# Altium schematic symbol library con-wago.SCHLIB: 193 symbols (part 2 of 2)
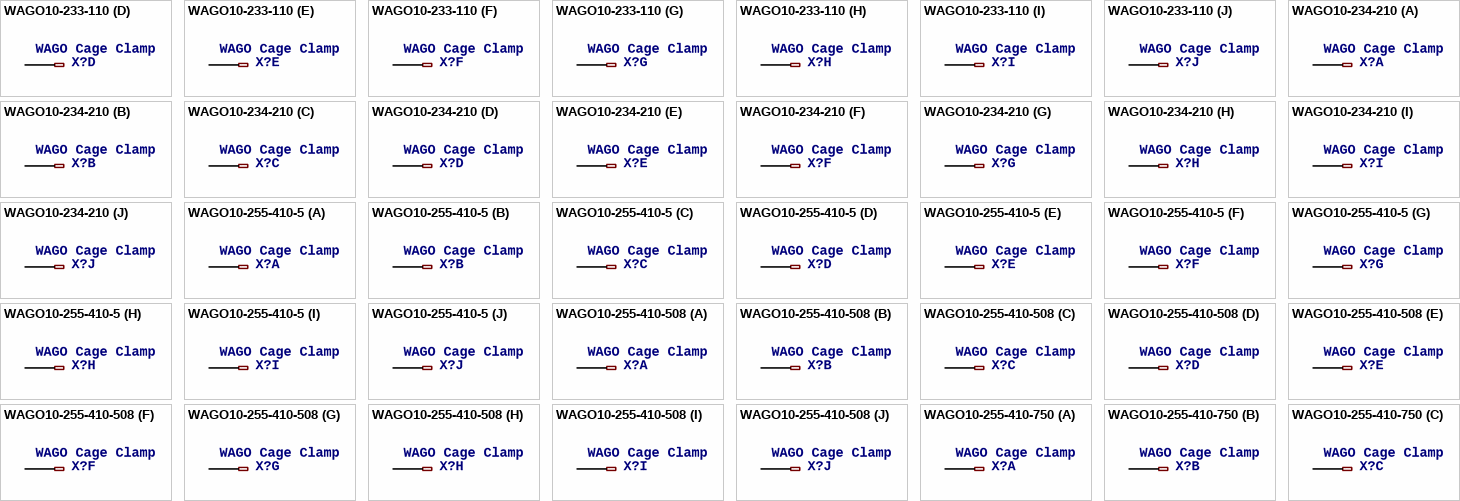
[diagram p32: symbols WAGO10-233-110 to WAGO10-255-410-750]

## WAGO10-255-410-508
designator X?, comment WAGO Cage Clamp
OC_FARNELL: unknown; OC_NEWARK: unknown
footprint 255-410-508
part A pins: A1, B1
part B pins: A2 A1, B2 B1
part C pins: A3 A1, B3 B1
part D pins: A4 A1, B4 B1
part E pins: A5 A1, B5 B1
part F pins: A6 A1, B6 B1
part G pins: A7 A1, B7 B1
part H pins: A8 A1, B8 B1
part I pins: A9 A1, B9 B1
part J pins: A10 A1, B10 B1

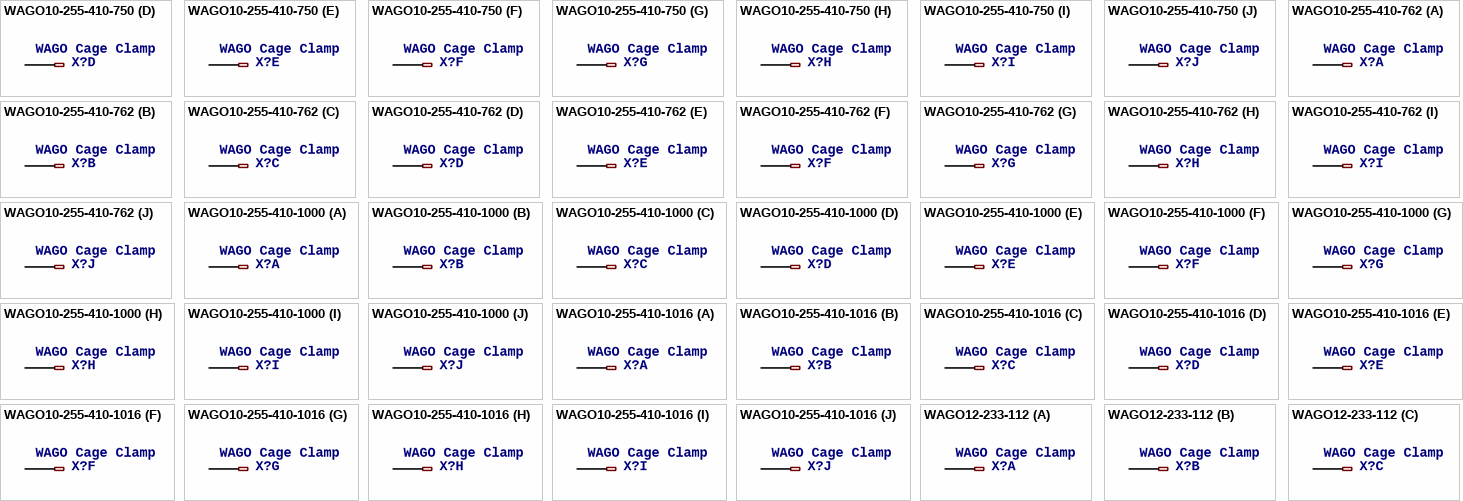
[diagram p13: symbols WAGO10-255-410-750 to WAGO12-233-112]

## WAGO10-255-410-750
designator X?, comment WAGO Cage Clamp
OC_FARNELL: unknown; OC_NEWARK: unknown
footprint 255-410-750
part A pins: A1, B1
part B pins: A2 A1, B2 B1
part C pins: A3 A1, B3 B1
part D pins: A4 A1, B4 B1
part E pins: A5 A1, B5 B1
part F pins: A6 A1, B6 B1
part G pins: A7 A1, B7 B1
part H pins: A8 A1, B8 B1
part I pins: A9 A1, B9 B1
part J pins: A10 A1, B10 B1

## WAGO10-255-410-762
designator X?, comment WAGO Cage Clamp
OC_FARNELL: unknown; OC_NEWARK: unknown
footprint 255-410-762
part A pins: A1, B1
part B pins: A2 A1, B2 B1
part C pins: A3 A1, B3 B1
part D pins: A4 A1, B4 B1
part E pins: A5 A1, B5 B1
part F pins: A6 A1, B6 B1
part G pins: A7 A1, B7 B1
part H pins: A8 A1, B8 B1
part I pins: A9 A1, B9 B1
part J pins: A10 A1, B10 B1

## WAGO10-255-410-1000
designator X?, comment WAGO Cage Clamp
OC_FARNELL: unknown; OC_NEWARK: unknown
footprint 255-410-1000
part A pins: A1, B1
part B pins: A2 A1, B2 B1
part C pins: A3 A1, B3 B1
part D pins: A4 A1, B4 B1
part E pins: A5 A1, B5 B1
part F pins: A6 A1, B6 B1
part G pins: A7 A1, B7 B1
part H pins: A8 A1, B8 B1
part I pins: A9 A1, B9 B1
part J pins: A10 A1, B10 B1

## WAGO10-255-410-1016
designator X?, comment WAGO Cage Clamp
OC_FARNELL: unknown; OC_NEWARK: unknown
footprint 255-410-1016
part A pins: A1, B1
part B pins: A2 A1, B2 B1
part C pins: A3 A1, B3 B1
part D pins: A4 A1, B4 B1
part E pins: A5 A1, B5 B1
part F pins: A6 A1, B6 B1
part G pins: A7 A1, B7 B1
part H pins: A8 A1, B8 B1
part I pins: A9 A1, B9 B1
part J pins: A10 A1, B10 B1

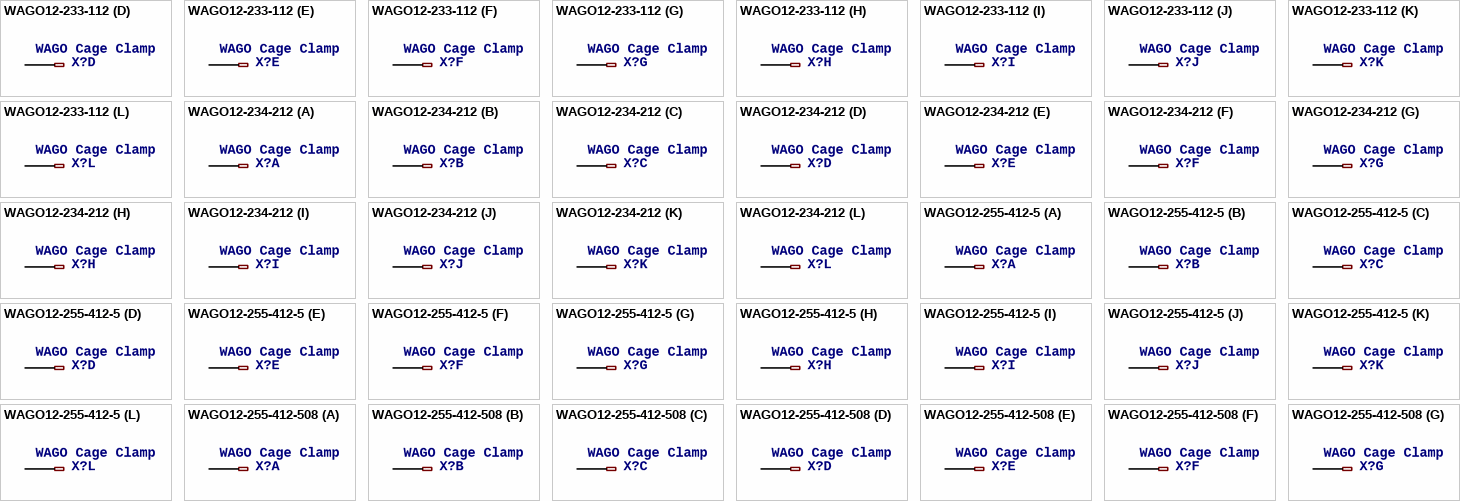
[diagram p14: symbols WAGO12-233-112 to WAGO12-255-412-508]

## WAGO12-233-112
designator X?, comment WAGO Cage Clamp
MPN: 233-112; OC_FARNELL: unknown; OC_NEWARK: 28K9053
footprint 233-112
part A pins: A1, B1
part B pins: A2 A1, B2 B1
part C pins: A3 A1, B3 B1
part D pins: A4 A1, B4 B1
part E pins: A5 A1, B5 B1
part F pins: A6 A1, B6 B1
part G pins: A7 A1, B7 B1
part H pins: A8 A1, B8 B1
part I pins: A9 A1, B9 B1
part J pins: A10 A1, B10 B1
part K pins: A11 A1, B11 B1
part L pins: A12 A1, B12 B1

## WAGO12-234-212
designator X?, comment WAGO Cage Clamp
MPN: 234-212; OC_FARNELL: unknown; OC_NEWARK: 28K9100
footprint 234-212
part A pins: A1, B1
part B pins: A2 A1, B2 B1
part C pins: A3 A1, B3 B1
part D pins: A4 A1, B4 B1
part E pins: A5 A1, B5 B1
part F pins: A6 A1, B6 B1
part G pins: A7 A1, B7 B1
part H pins: A8 A1, B8 B1
part I pins: A9 A1, B9 B1
part J pins: A10 A1, B10 B1
part K pins: A11 A1, B11 B1
part L pins: A12 A1, B12 B1

## WAGO12-255-412-5
designator X?, comment WAGO Cage Clamp
MPN: 255-412; OC_FARNELL: unknown; OC_NEWARK: 28K9777
footprint 255-412-5
part A pins: A1, B1
part B pins: A2 A1, B2 B1
part C pins: A3 A1, B3 B1
part D pins: A4 A1, B4 B1
part E pins: A5 A1, B5 B1
part F pins: A6 A1, B6 B1
part G pins: A7 A1, B7 B1
part H pins: A8 A1, B8 B1
part I pins: A9 A1, B9 B1
part J pins: A10 A1, B10 B1
part K pins: A11 A1, B11 B1
part L pins: A12 A1, B12 B1

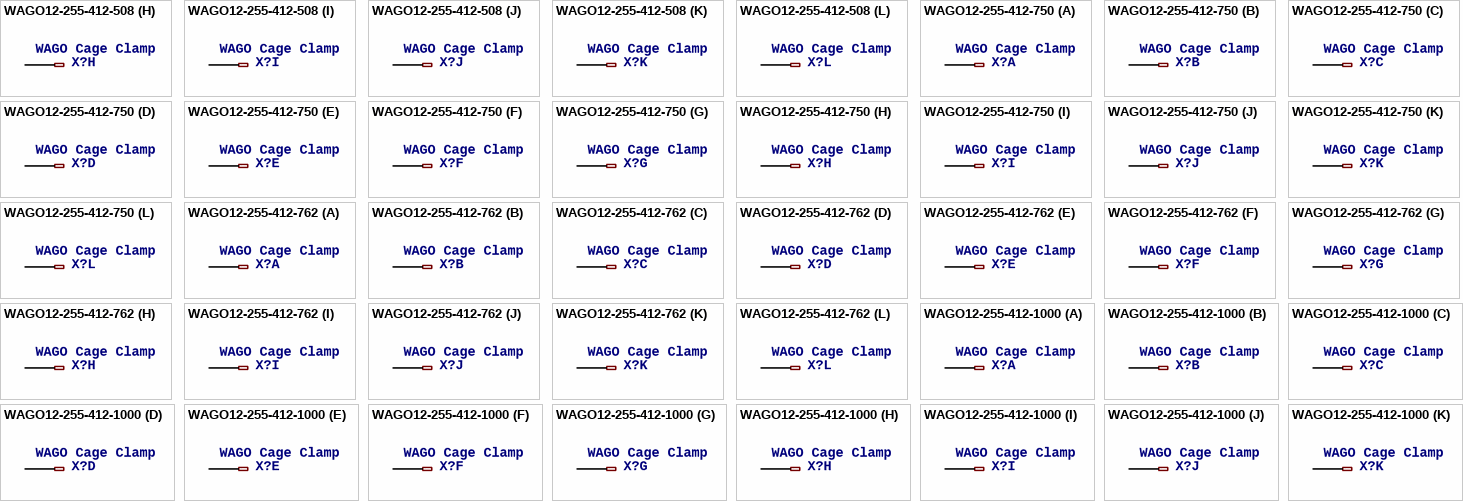
[diagram p15: symbols WAGO12-255-412-508 to WAGO12-255-412-1000]

## WAGO12-255-412-508
designator X?, comment WAGO Cage Clamp
OC_FARNELL: unknown; OC_NEWARK: unknown
footprint 255-412-508
part A pins: A1, B1
part B pins: A2 A1, B2 B1
part C pins: A3 A1, B3 B1
part D pins: A4 A1, B4 B1
part E pins: A5 A1, B5 B1
part F pins: A6 A1, B6 B1
part G pins: A7 A1, B7 B1
part H pins: A8 A1, B8 B1
part I pins: A9 A1, B9 B1
part J pins: A10 A1, B10 B1
part K pins: A11 A1, B11 B1
part L pins: A12 A1, B12 B1

## WAGO12-255-412-750
designator X?, comment WAGO Cage Clamp
OC_FARNELL: unknown; OC_NEWARK: unknown
footprint 255-412-750
part A pins: A1, B1
part B pins: A2 A1, B2 B1
part C pins: A3 A1, B3 B1
part D pins: A4 A1, B4 B1
part E pins: A5 A1, B5 B1
part F pins: A6 A1, B6 B1
part G pins: A7 A1, B7 B1
part H pins: A8 A1, B8 B1
part I pins: A9 A1, B9 B1
part J pins: A10 A1, B10 B1
part K pins: A11 A1, B11 B1
part L pins: A12 A1, B12 B1

## WAGO12-255-412-762
designator X?, comment WAGO Cage Clamp
OC_FARNELL: unknown; OC_NEWARK: unknown
footprint 255-412-762
part A pins: A1, B1
part B pins: A2 A1, B2 B1
part C pins: A3 A1, B3 B1
part D pins: A4 A1, B4 B1
part E pins: A5 A1, B5 B1
part F pins: A6 A1, B6 B1
part G pins: A7 A1, B7 B1
part H pins: A8 A1, B8 B1
part I pins: A9 A1, B9 B1
part J pins: A10 A1, B10 B1
part K pins: A11 A1, B11 B1
part L pins: A12 A1, B12 B1

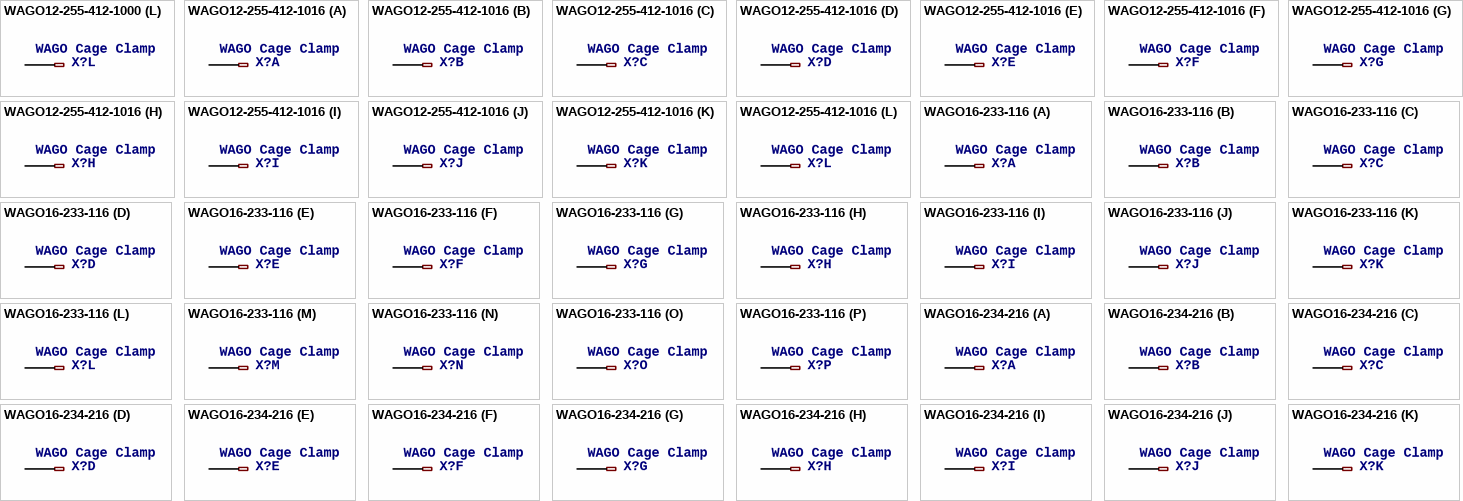
[diagram p16: symbols WAGO12-255-412-1000 to WAGO16-234-216]

## WAGO12-255-412-1000
designator X?, comment WAGO Cage Clamp
OC_FARNELL: unknown; OC_NEWARK: unknown
footprint 255-412-1000
part A pins: A1, B1
part B pins: A2 A1, B2 B1
part C pins: A3 A1, B3 B1
part D pins: A4 A1, B4 B1
part E pins: A5 A1, B5 B1
part F pins: A6 A1, B6 B1
part G pins: A7 A1, B7 B1
part H pins: A8 A1, B8 B1
part I pins: A9 A1, B9 B1
part J pins: A10 A1, B10 B1
part K pins: A11 A1, B11 B1
part L pins: A12 A1, B12 B1

## WAGO12-255-412-1016
designator X?, comment WAGO Cage Clamp
OC_FARNELL: unknown; OC_NEWARK: unknown
footprint 255-412-1016
part A pins: A1, B1
part B pins: A2 A1, B2 B1
part C pins: A3 A1, B3 B1
part D pins: A4 A1, B4 B1
part E pins: A5 A1, B5 B1
part F pins: A6 A1, B6 B1
part G pins: A7 A1, B7 B1
part H pins: A8 A1, B8 B1
part I pins: A9 A1, B9 B1
part J pins: A10 A1, B10 B1
part K pins: A11 A1, B11 B1
part L pins: A12 A1, B12 B1

## WAGO16-233-116
designator X?, comment WAGO Cage Clamp
MPN: 233-116; OC_FARNELL: unknown; OC_NEWARK: 28K9054
footprint 233-116
part A pins: A1, B1
part B pins: A2 A1, B2 B1
part C pins: A3 A1, B3 B1
part D pins: A4 A1, B4 B1
part E pins: A5 A1, B5 B1
part F pins: A6 A1, B6 B1
part G pins: A7 A1, B7 B1
part H pins: A8 A1, B8 B1
part I pins: A9 A1, B9 B1
part J pins: A10 A1, B10 B1
part K pins: A11 A1, B11 B1
part L pins: A12 A1, B12 B1
part M pins: A13 A1, B13 B1
part N pins: A14 A1, B14 B1
part O pins: A15 A1, B15 B1
part P pins: A16 A1, B16 B1

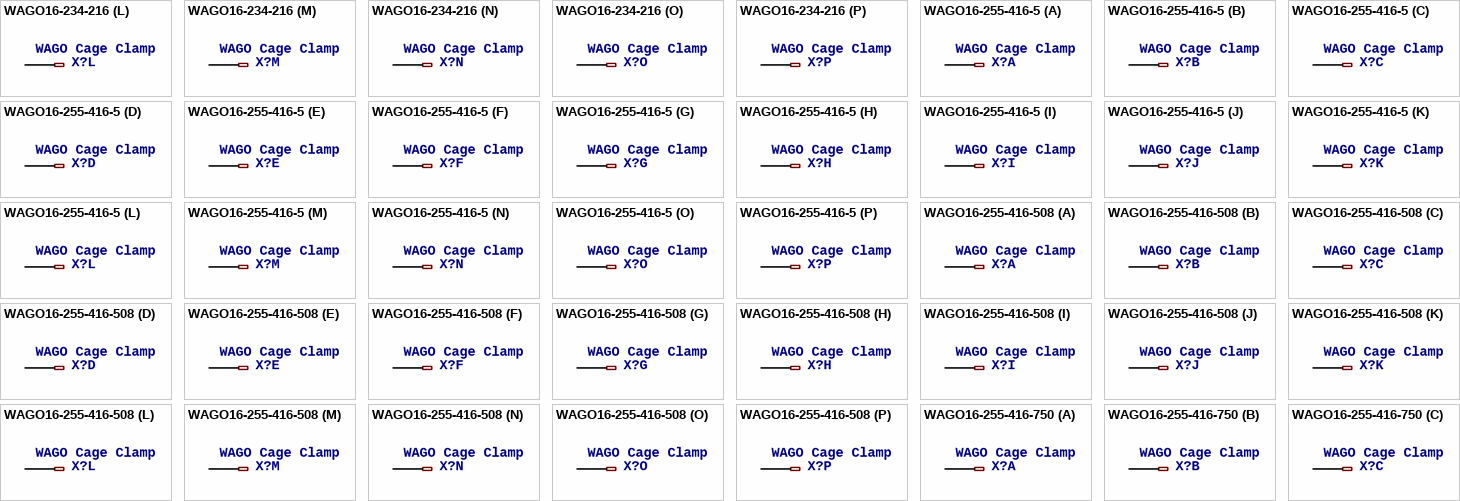
[diagram p17: symbols WAGO16-234-216 to WAGO16-255-416-750]

## WAGO16-234-216
designator X?, comment WAGO Cage Clamp
MPN: 234-216; OC_FARNELL: unknown; OC_NEWARK: 28K9101
footprint 234-216
part A pins: A1, B1
part B pins: A2 A1, B2 B1
part C pins: A3 A1, B3 B1
part D pins: A4 A1, B4 B1
part E pins: A5 A1, B5 B1
part F pins: A6 A1, B6 B1
part G pins: A7 A1, B7 B1
part H pins: A8 A1, B8 B1
part I pins: A9 A1, B9 B1
part J pins: A10 A1, B10 B1
part K pins: A11 A1, B11 B1
part L pins: A12 A1, B12 B1
part M pins: A13 A1, B13 B1
part N pins: A14 A1, B14 B1
part O pins: A15 A1, B15 B1
part P pins: A16 A1, B16 B1

## WAGO16-255-416-5
designator X?, comment WAGO Cage Clamp
MPN: 255-416; OC_FARNELL: unknown; OC_NEWARK: 28K9779
footprint 255-416-5
part A pins: A1, B1
part B pins: A2 A1, B2 B1
part C pins: A3 A1, B3 B1
part D pins: A4 A1, B4 B1
part E pins: A5 A1, B5 B1
part F pins: A6 A1, B6 B1
part G pins: A7 A1, B7 B1
part H pins: A8 A1, B8 B1
part I pins: A9 A1, B9 B1
part J pins: A10 A1, B10 B1
part K pins: A11 A1, B11 B1
part L pins: A12 A1, B12 B1
part M pins: A13 A1, B13 B1
part N pins: A14 A1, B14 B1
part O pins: A15 A1, B15 B1
part P pins: A16 A1, B16 B1

## WAGO16-255-416-508
designator X?, comment WAGO Cage Clamp
MPN: 255-416; OC_FARNELL: unknown; OC_NEWARK: 28K9779
footprint 255-416-508
part A pins: A1, B1
part B pins: A2 A1, B2 B1
part C pins: A3 A1, B3 B1
part D pins: A4 A1, B4 B1
part E pins: A5 A1, B5 B1
part F pins: A6 A1, B6 B1
part G pins: A7 A1, B7 B1
part H pins: A8 A1, B8 B1
part I pins: A9 A1, B9 B1
part J pins: A10 A1, B10 B1
part K pins: A11 A1, B11 B1
part L pins: A12 A1, B12 B1
part M pins: A13 A1, B13 B1
part N pins: A14 A1, B14 B1
part O pins: A15 A1, B15 B1
part P pins: A16 A1, B16 B1

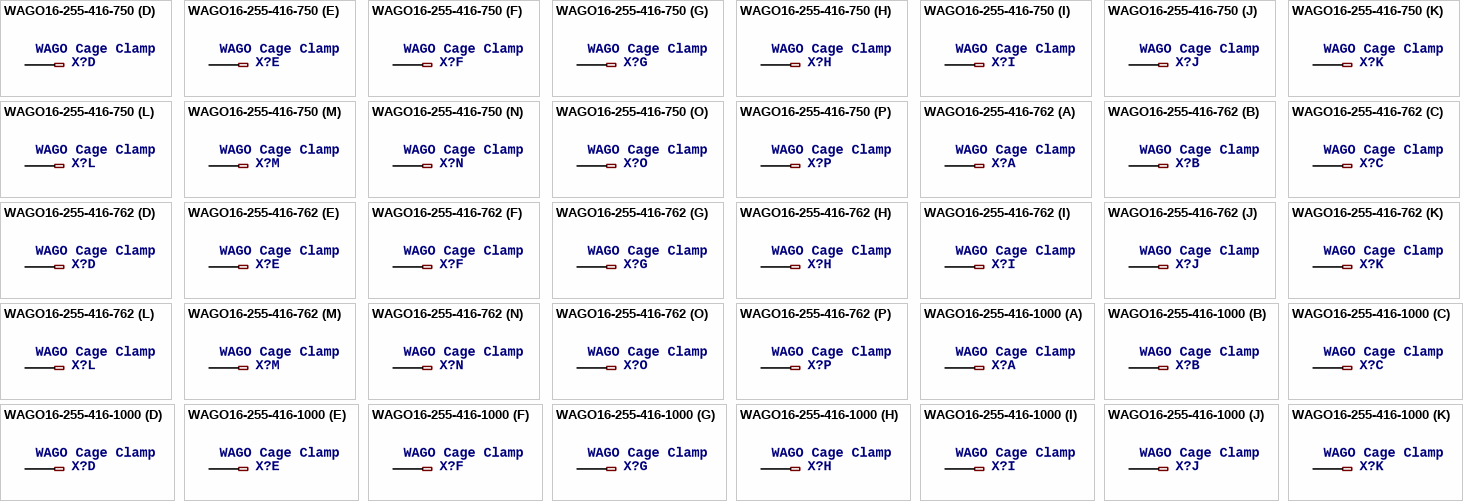
[diagram p18: symbols WAGO16-255-416-750 to WAGO16-255-416-1000]

## WAGO16-255-416-750
designator X?, comment WAGO Cage Clamp
OC_FARNELL: unknown; OC_NEWARK: unknown
footprint 255-416-750
part A pins: A1, B1
part B pins: A2 A1, B2 B1
part C pins: A3 A1, B3 B1
part D pins: A4 A1, B4 B1
part E pins: A5 A1, B5 B1
part F pins: A6 A1, B6 B1
part G pins: A7 A1, B7 B1
part H pins: A8 A1, B8 B1
part I pins: A9 A1, B9 B1
part J pins: A10 A1, B10 B1
part K pins: A11 A1, B11 B1
part L pins: A12 A1, B12 B1
part M pins: A13 A1, B13 B1
part N pins: A14 A1, B14 B1
part O pins: A15 A1, B15 B1
part P pins: A16 A1, B16 B1

## WAGO16-255-416-762
designator X?, comment WAGO Cage Clamp
OC_FARNELL: unknown; OC_NEWARK: unknown
footprint 255-416-762
part A pins: A1, B1
part B pins: A2 A1, B2 B1
part C pins: A3 A1, B3 B1
part D pins: A4 A1, B4 B1
part E pins: A5 A1, B5 B1
part F pins: A6 A1, B6 B1
part G pins: A7 A1, B7 B1
part H pins: A8 A1, B8 B1
part I pins: A9 A1, B9 B1
part J pins: A10 A1, B10 B1
part K pins: A11 A1, B11 B1
part L pins: A12 A1, B12 B1
part M pins: A13 A1, B13 B1
part N pins: A14 A1, B14 B1
part O pins: A15 A1, B15 B1
part P pins: A16 A1, B16 B1

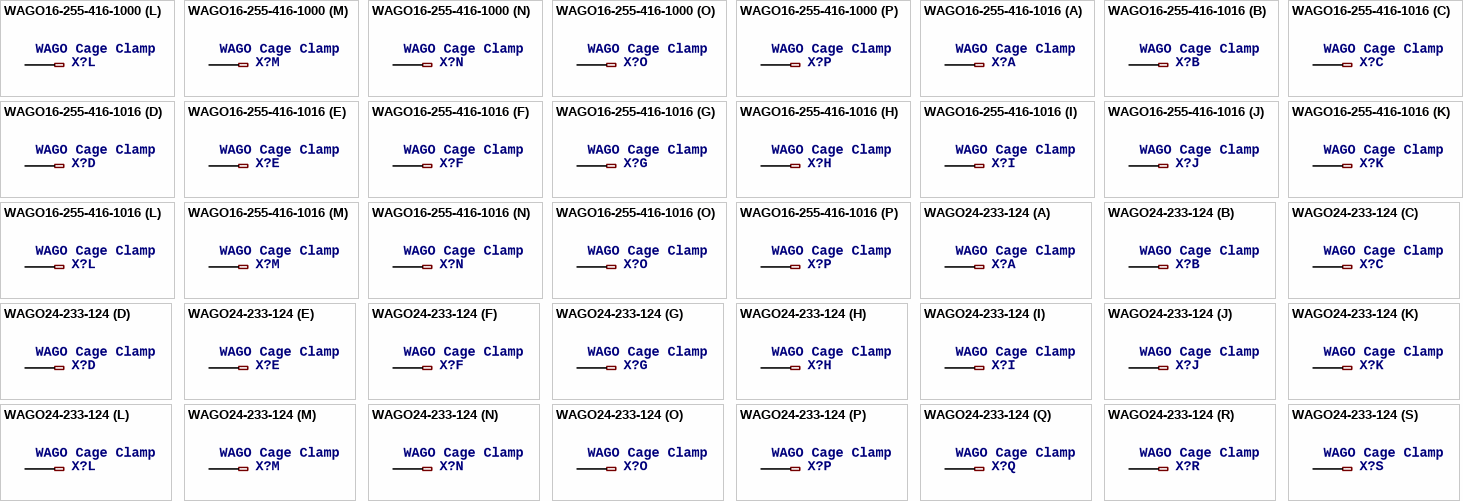
[diagram p19: symbols WAGO16-255-416-1000 to WAGO24-233-124]

## WAGO16-255-416-1000
designator X?, comment WAGO Cage Clamp
OC_FARNELL: unknown; OC_NEWARK: unknown
footprint 255-416-1000
part A pins: A1, B1
part B pins: A2 A1, B2 B1
part C pins: A3 A1, B3 B1
part D pins: A4 A1, B4 B1
part E pins: A5 A1, B5 B1
part F pins: A6 A1, B6 B1
part G pins: A7 A1, B7 B1
part H pins: A8 A1, B8 B1
part I pins: A9 A1, B9 B1
part J pins: A10 A1, B10 B1
part K pins: A11 A1, B11 B1
part L pins: A12 A1, B12 B1
part M pins: A13 A1, B13 B1
part N pins: A14 A1, B14 B1
part O pins: A15 A1, B15 B1
part P pins: A16 A1, B16 B1

## WAGO16-255-416-1016
designator X?, comment WAGO Cage Clamp
OC_FARNELL: unknown; OC_NEWARK: unknown
footprint 255-416-1016
part A pins: A1, B1
part B pins: A2 A1, B2 B1
part C pins: A3 A1, B3 B1
part D pins: A4 A1, B4 B1
part E pins: A5 A1, B5 B1
part F pins: A6 A1, B6 B1
part G pins: A7 A1, B7 B1
part H pins: A8 A1, B8 B1
part I pins: A9 A1, B9 B1
part J pins: A10 A1, B10 B1
part K pins: A11 A1, B11 B1
part L pins: A12 A1, B12 B1
part M pins: A13 A1, B13 B1
part N pins: A14 A1, B14 B1
part O pins: A15 A1, B15 B1
part P pins: A16 A1, B16 B1

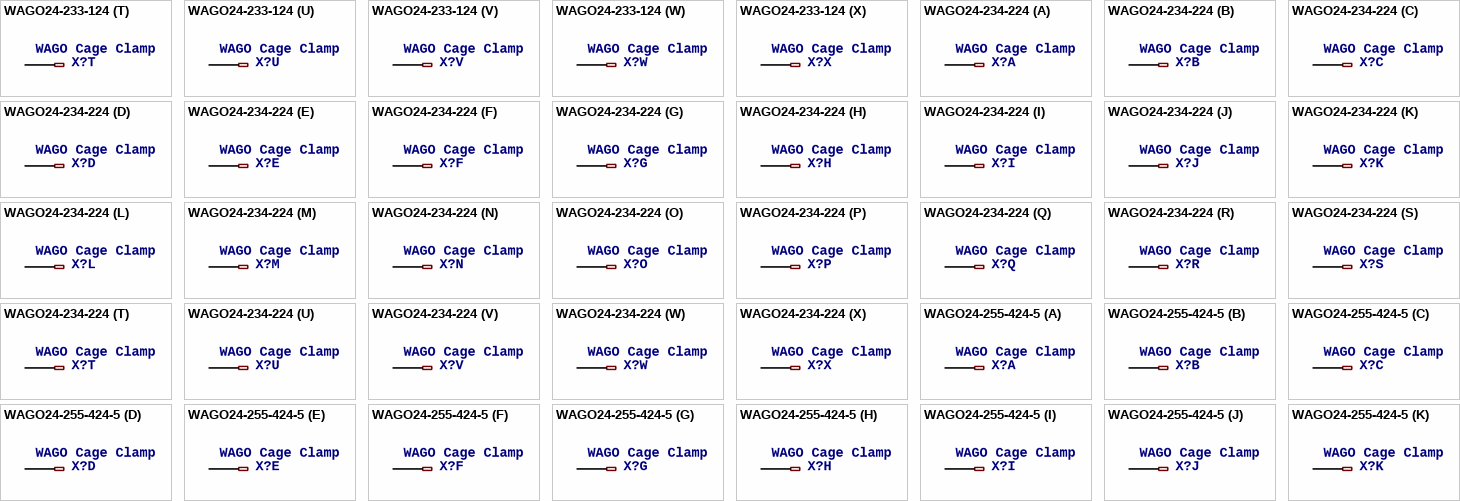
[diagram p20: symbols WAGO24-233-124 to WAGO24-255-424-5]

## WAGO24-233-124
designator X?, comment WAGO Cage Clamp
MPN: 233-124; OC_FARNELL: unknown; OC_NEWARK: 28K9056
footprint 233-124
part A pins: A1, B1
part B pins: A2 A1, B2 B1
part C pins: A3 A1, B3 B1
part D pins: A4 A1, B4 B1
part E pins: A5 A1, B5 B1
part F pins: A6 A1, B6 B1
part G pins: A7 A1, B7 B1
part H pins: A8 A1, B8 B1
part I pins: A9 A1, B9 B1
part J pins: A10 A1, B10 B1
part K pins: A11 A1, B11 B1
part L pins: A12 A1, B12 B1
part M pins: A13 A1, B13 B1
part N pins: A14 A1, B14 B1
part O pins: A15 A1, B15 B1
part P pins: A16 A1, B16 B1
part Q pins: A17 A1, B17 B1
part R pins: A18 A1, B18 B1
part S pins: A19 A1, B19 B1
part T pins: A20 A1, B20 B1
part U pins: A21 A1, B21 B1
part V pins: A22 A1, B22 B1
part W pins: A23 A1, B23 B1
part X pins: A24 A1, B24 B1

## WAGO24-234-224
designator X?, comment WAGO Cage Clamp
MPN: 234-224; OC_FARNELL: unknown; OC_NEWARK: 28K9102
footprint 234-224
part A pins: A1, B1
part B pins: A2 A1, B2 B1
part C pins: A3 A1, B3 B1
part D pins: A4 A1, B4 B1
part E pins: A5 A1, B5 B1
part F pins: A6 A1, B6 B1
part G pins: A7 A1, B7 B1
part H pins: A8 A1, B8 B1
part I pins: A9 A1, B9 B1
part J pins: A10 A1, B10 B1
part K pins: A11 A1, B11 B1
part L pins: A12 A1, B12 B1
part M pins: A13 A1, B13 B1
part N pins: A14 A1, B14 B1
part O pins: A15 A1, B15 B1
part P pins: A16 A1, B16 B1
part Q pins: A17 A1, B17 B1
part R pins: A18 A1, B18 B1
part S pins: A19 A1, B19 B1
part T pins: A20 A1, B20 B1
part U pins: A21 A1, B21 B1
part V pins: A22 A1, B22 B1
part W pins: A23 A1, B23 B1
part X pins: A24 A1, B24 B1

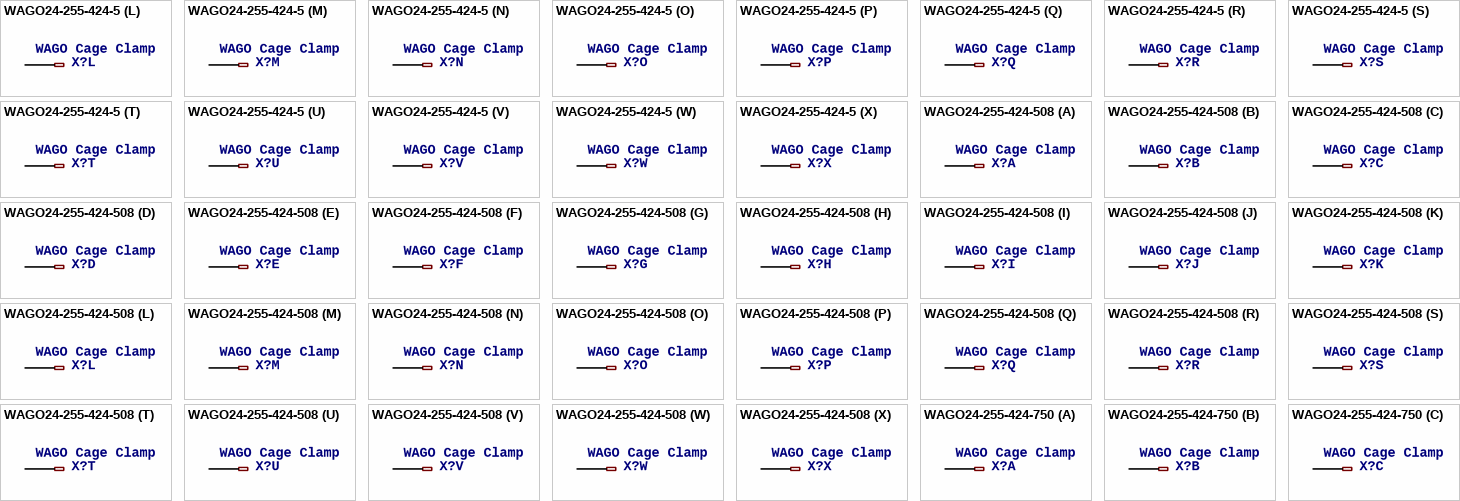
[diagram p21: symbols WAGO24-255-424-5 to WAGO24-255-424-750]

## WAGO24-255-424-5
designator X?, comment WAGO Cage Clamp
MPN: 255-424; OC_FARNELL: unknown; OC_NEWARK: 28K9780
footprint 255-424-5
part A pins: A1, B1
part B pins: A2 A1, B2 B1
part C pins: A3 A1, B3 B1
part D pins: A4 A1, B4 B1
part E pins: A5 A1, B5 B1
part F pins: A6 A1, B6 B1
part G pins: A7 A1, B7 B1
part H pins: A8 A1, B8 B1
part I pins: A9 A1, B9 B1
part J pins: A10 A1, B10 B1
part K pins: A11 A1, B11 B1
part L pins: A12 A1, B12 B1
part M pins: A13 A1, B13 B1
part N pins: A14 A1, B14 B1
part O pins: A15 A1, B15 B1
part P pins: A16 A1, B16 B1
part Q pins: A17 A1, B17 B1
part R pins: A18 A1, B18 B1
part S pins: A19 A1, B19 B1
part T pins: A20 A1, B20 B1
part U pins: A21 A1, B21 B1
part V pins: A22 A1, B22 B1
part W pins: A23 A1, B23 B1
part X pins: A24 A1, B24 B1

## WAGO24-255-424-508
designator X?, comment WAGO Cage Clamp
OC_FARNELL: unknown; OC_NEWARK: unknown
footprint 255-424-508
part A pins: A1, B1
part B pins: A2 A1, B2 B1
part C pins: A3 A1, B3 B1
part D pins: A4 A1, B4 B1
part E pins: A5 A1, B5 B1
part F pins: A6 A1, B6 B1
part G pins: A7 A1, B7 B1
part H pins: A8 A1, B8 B1
part I pins: A9 A1, B9 B1
part J pins: A10 A1, B10 B1
part K pins: A11 A1, B11 B1
part L pins: A12 A1, B12 B1
part M pins: A13 A1, B13 B1
part N pins: A14 A1, B14 B1
part O pins: A15 A1, B15 B1
part P pins: A16 A1, B16 B1
part Q pins: A17 A1, B17 B1
part R pins: A18 A1, B18 B1
part S pins: A19 A1, B19 B1
part T pins: A20 A1, B20 B1
part U pins: A21 A1, B21 B1
part V pins: A22 A1, B22 B1
part W pins: A23 A1, B23 B1
part X pins: A24 A1, B24 B1

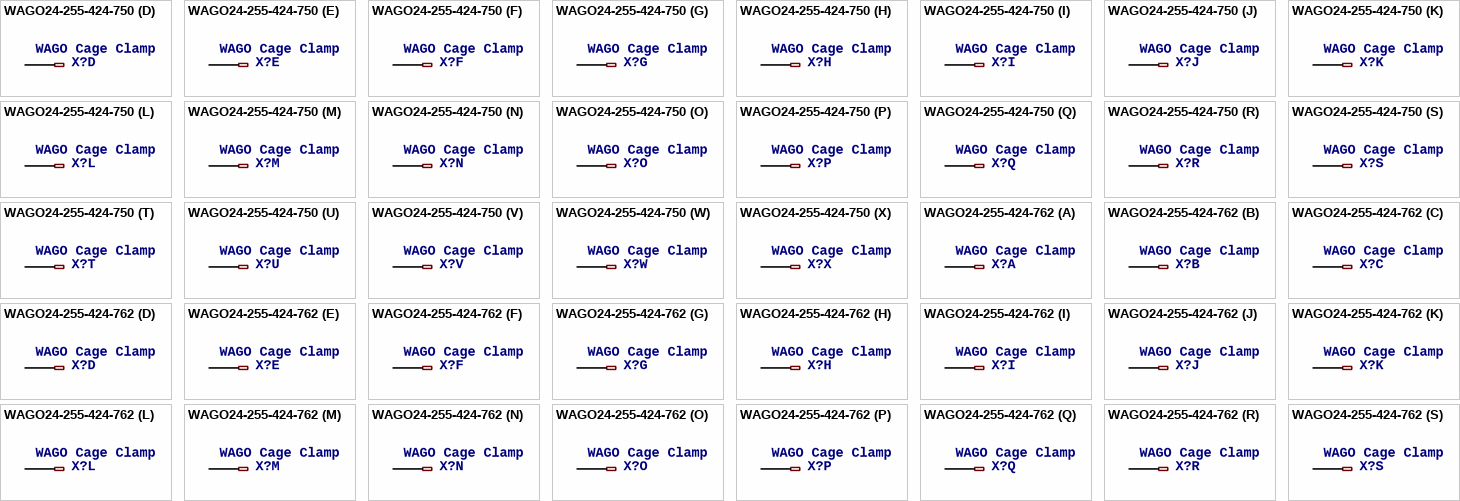
[diagram p22: symbols WAGO24-255-424-750 to WAGO24-255-424-762]

## WAGO24-255-424-750
designator X?, comment WAGO Cage Clamp
OC_FARNELL: unknown; OC_NEWARK: unknown
footprint 255-424-750
part A pins: A1, B1
part B pins: A2 A1, B2 B1
part C pins: A3 A1, B3 B1
part D pins: A4 A1, B4 B1
part E pins: A5 A1, B5 B1
part F pins: A6 A1, B6 B1
part G pins: A7 A1, B7 B1
part H pins: A8 A1, B8 B1
part I pins: A9 A1, B9 B1
part J pins: A10 A1, B10 B1
part K pins: A11 A1, B11 B1
part L pins: A12 A1, B12 B1
part M pins: A13 A1, B13 B1
part N pins: A14 A1, B14 B1
part O pins: A15 A1, B15 B1
part P pins: A16 A1, B16 B1
part Q pins: A17 A1, B17 B1
part R pins: A18 A1, B18 B1
part S pins: A19 A1, B19 B1
part T pins: A20 A1, B20 B1
part U pins: A21 A1, B21 B1
part V pins: A22 A1, B22 B1
part W pins: A23 A1, B23 B1
part X pins: A24 A1, B24 B1

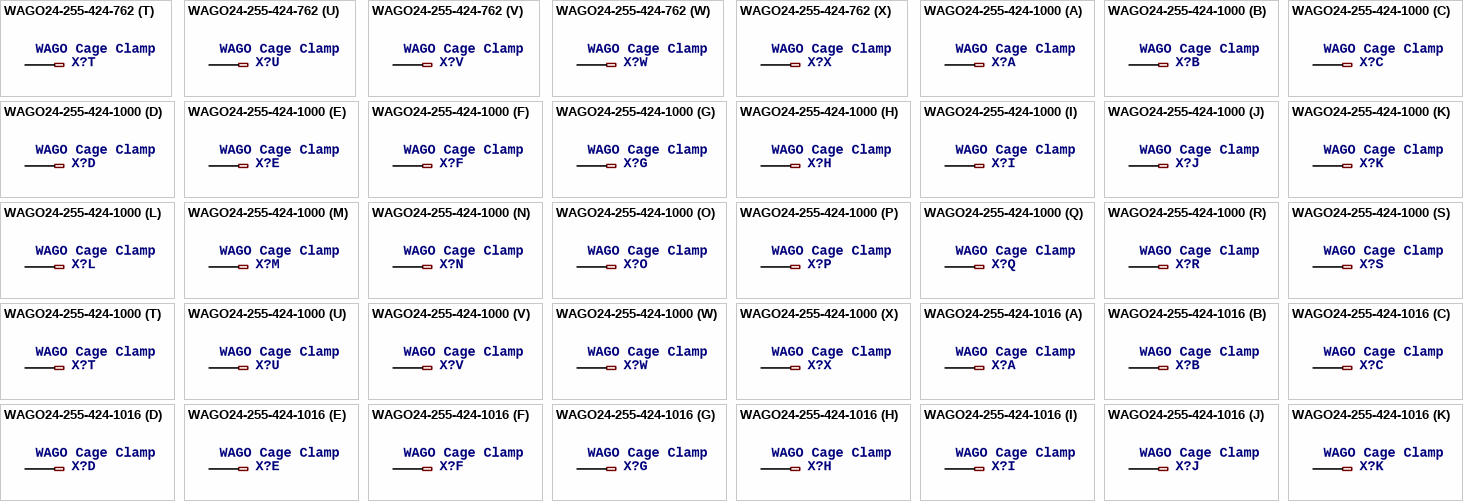
[diagram p23: symbols WAGO24-255-424-762 to WAGO24-255-424-1016]

## WAGO24-255-424-762
designator X?, comment WAGO Cage Clamp
OC_FARNELL: unknown; OC_NEWARK: unknown
footprint 255-424-762
part A pins: A1, B1
part B pins: A2 A1, B2 B1
part C pins: A3 A1, B3 B1
part D pins: A4 A1, B4 B1
part E pins: A5 A1, B5 B1
part F pins: A6 A1, B6 B1
part G pins: A7 A1, B7 B1
part H pins: A8 A1, B8 B1
part I pins: A9 A1, B9 B1
part J pins: A10 A1, B10 B1
part K pins: A11 A1, B11 B1
part L pins: A12 A1, B12 B1
part M pins: A13 A1, B13 B1
part N pins: A14 A1, B14 B1
part O pins: A15 A1, B15 B1
part P pins: A16 A1, B16 B1
part Q pins: A17 A1, B17 B1
part R pins: A18 A1, B18 B1
part S pins: A19 A1, B19 B1
part T pins: A20 A1, B20 B1
part U pins: A21 A1, B21 B1
part V pins: A22 A1, B22 B1
part W pins: A23 A1, B23 B1
part X pins: A24 A1, B24 B1

## WAGO24-255-424-1000
designator X?, comment WAGO Cage Clamp
OC_FARNELL: unknown; OC_NEWARK: unknown
footprint 255-424-1000
part A pins: A1, B1
part B pins: A2 A1, B2 B1
part C pins: A3 A1, B3 B1
part D pins: A4 A1, B4 B1
part E pins: A5 A1, B5 B1
part F pins: A6 A1, B6 B1
part G pins: A7 A1, B7 B1
part H pins: A8 A1, B8 B1
part I pins: A9 A1, B9 B1
part J pins: A10 A1, B10 B1
part K pins: A11 A1, B11 B1
part L pins: A12 A1, B12 B1
part M pins: A13 A1, B13 B1
part N pins: A14 A1, B14 B1
part O pins: A15 A1, B15 B1
part P pins: A16 A1, B16 B1
part Q pins: A17 A1, B17 B1
part R pins: A18 A1, B18 B1
part S pins: A19 A1, B19 B1
part T pins: A20 A1, B20 B1
part U pins: A21 A1, B21 B1
part V pins: A22 A1, B22 B1
part W pins: A23 A1, B23 B1
part X pins: A24 A1, B24 B1

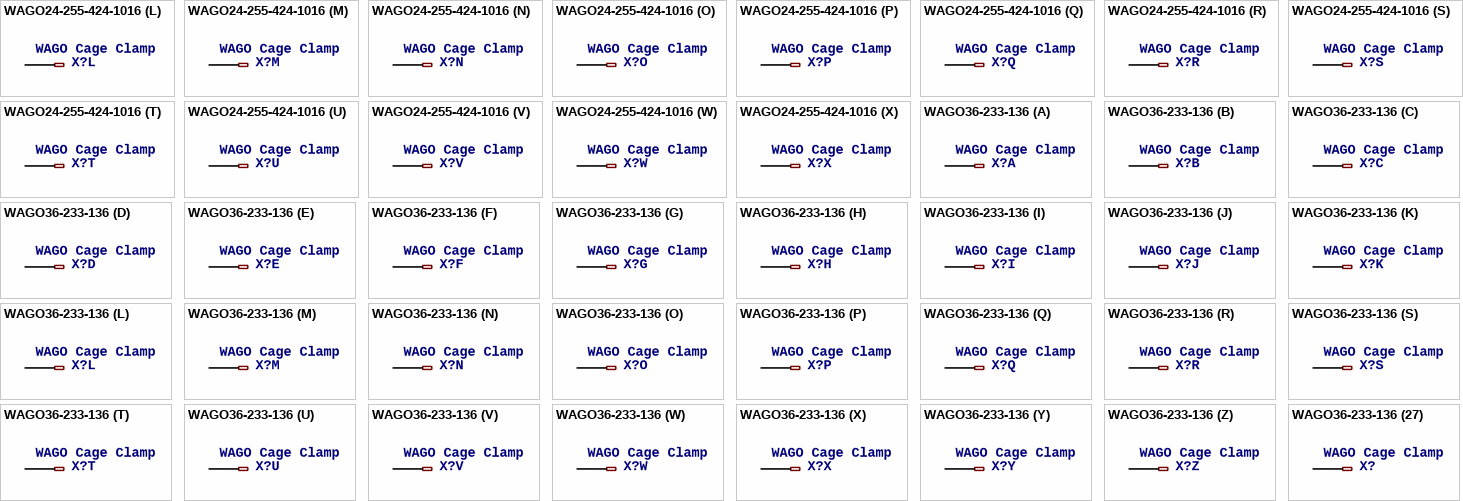
[diagram p24: symbols WAGO24-255-424-1016 to WAGO36-233-136]

## WAGO24-255-424-1016
designator X?, comment WAGO Cage Clamp
OC_FARNELL: unknown; OC_NEWARK: unknown
footprint 255-424-1016
part A pins: A1, B1
part B pins: A2 A1, B2 B1
part C pins: A3 A1, B3 B1
part D pins: A4 A1, B4 B1
part E pins: A5 A1, B5 B1
part F pins: A6 A1, B6 B1
part G pins: A7 A1, B7 B1
part H pins: A8 A1, B8 B1
part I pins: A9 A1, B9 B1
part J pins: A10 A1, B10 B1
part K pins: A11 A1, B11 B1
part L pins: A12 A1, B12 B1
part M pins: A13 A1, B13 B1
part N pins: A14 A1, B14 B1
part O pins: A15 A1, B15 B1
part P pins: A16 A1, B16 B1
part Q pins: A17 A1, B17 B1
part R pins: A18 A1, B18 B1
part S pins: A19 A1, B19 B1
part T pins: A20 A1, B20 B1
part U pins: A21 A1, B21 B1
part V pins: A22 A1, B22 B1
part W pins: A23 A1, B23 B1
part X pins: A24 A1, B24 B1

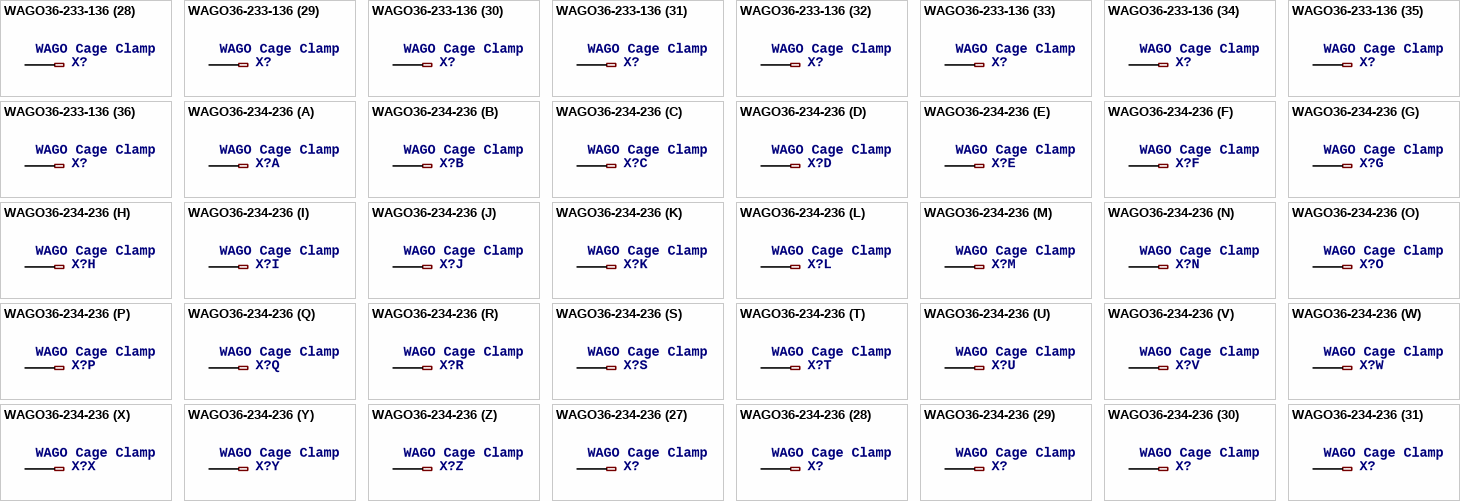
[diagram p25: symbols WAGO36-233-136 to WAGO36-234-236]

## WAGO36-233-136
designator X?, comment WAGO Cage Clamp
MPN: 233-136; OC_FARNELL: unknown; OC_NEWARK: 28K9057
footprint 233-136
part A pins: A1, B1
part B pins: A2 A1, B2 B1
part C pins: A3 A1, B3 B1
part D pins: A4 A1, B4 B1
part E pins: A5 A1, B5 B1
part F pins: A6 A1, B6 B1
part G pins: A7 A1, B7 B1
part H pins: A8 A1, B8 B1
part I pins: A9 A1, B9 B1
part J pins: A10 A1, B10 B1
part K pins: A11 A1, B11 B1
part L pins: A12 A1, B12 B1
part M pins: A13 A1, B13 B1
part N pins: A14 A1, B14 B1
part O pins: A15 A1, B15 B1
part P pins: A16 A1, B16 B1
part Q pins: A17 A1, B17 B1
part R pins: A18 A1, B18 B1
part S pins: A19 A1, B19 B1
part T pins: A20 A1, B20 B1
part U pins: A21 A1, B21 B1
part V pins: A22 A1, B22 B1
part W pins: A23 A1, B23 B1
part X pins: A24 A1, B24 B1
part Y pins: A25 A1, B25 B1
part Z pins: A26 A1, B26 B1
part 27 pins: A27 A1, B27 B1
part 28 pins: A28 A1, B28 B1
part 29 pins: A29 A1, B29 B1
part 30 pins: A30 A1, B30 B1
part 31 pins: A31 A1, B31 B1
part 32 pins: A32 A1, B32 B1
part 33 pins: A33 A1, B33 B1
part 34 pins: A34 A1, B34 B1
part 35 pins: A35 A1, B35 B1
part 36 pins: A36 A1, B36 B1

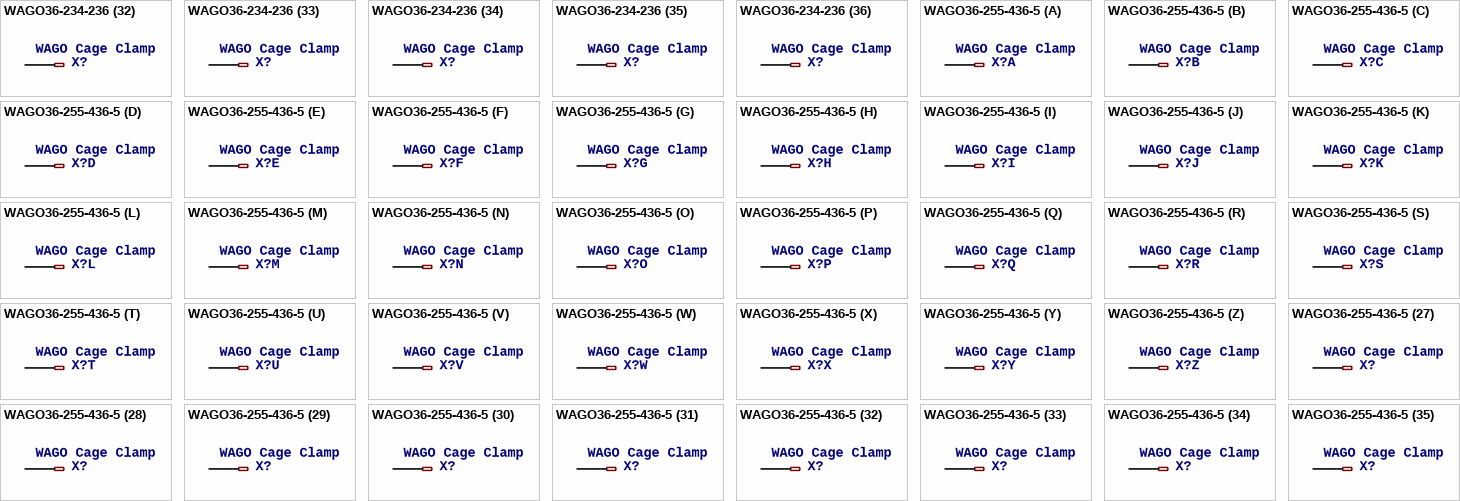
[diagram p26: symbols WAGO36-234-236 to WAGO36-255-436-5]

## WAGO36-234-236
designator X?, comment WAGO Cage Clamp
MPN: 234-236; OC_FARNELL: unknown; OC_NEWARK: 28K9103
footprint 234-236
part A pins: A1, B1
part B pins: A2 A1, B2 B1
part C pins: A3 A1, B3 B1
part D pins: A4 A1, B4 B1
part E pins: A5 A1, B5 B1
part F pins: A6 A1, B6 B1
part G pins: A7 A1, B7 B1
part H pins: A8 A1, B8 B1
part I pins: A9 A1, B9 B1
part J pins: A10 A1, B10 B1
part K pins: A11 A1, B11 B1
part L pins: A12 A1, B12 B1
part M pins: A13 A1, B13 B1
part N pins: A14 A1, B14 B1
part O pins: A15 A1, B15 B1
part P pins: A16 A1, B16 B1
part Q pins: A17 A1, B17 B1
part R pins: A18 A1, B18 B1
part S pins: A19 A1, B19 B1
part T pins: A20 A1, B20 B1
part U pins: A21 A1, B21 B1
part V pins: A22 A1, B22 B1
part W pins: A23 A1, B23 B1
part X pins: A24 A1, B24 B1
part Y pins: A25 A1, B25 B1
part Z pins: A26 A1, B26 B1
part 27 pins: A27 A1, B27 B1
part 28 pins: A28 A1, B28 B1
part 29 pins: A29 A1, B29 B1
part 30 pins: A30 A1, B30 B1
part 31 pins: A31 A1, B31 B1
part 32 pins: A32 A1, B32 B1
part 33 pins: A33 A1, B33 B1
part 34 pins: A34 A1, B34 B1
part 35 pins: A35 A1, B35 B1
part 36 pins: A36 A1, B36 B1

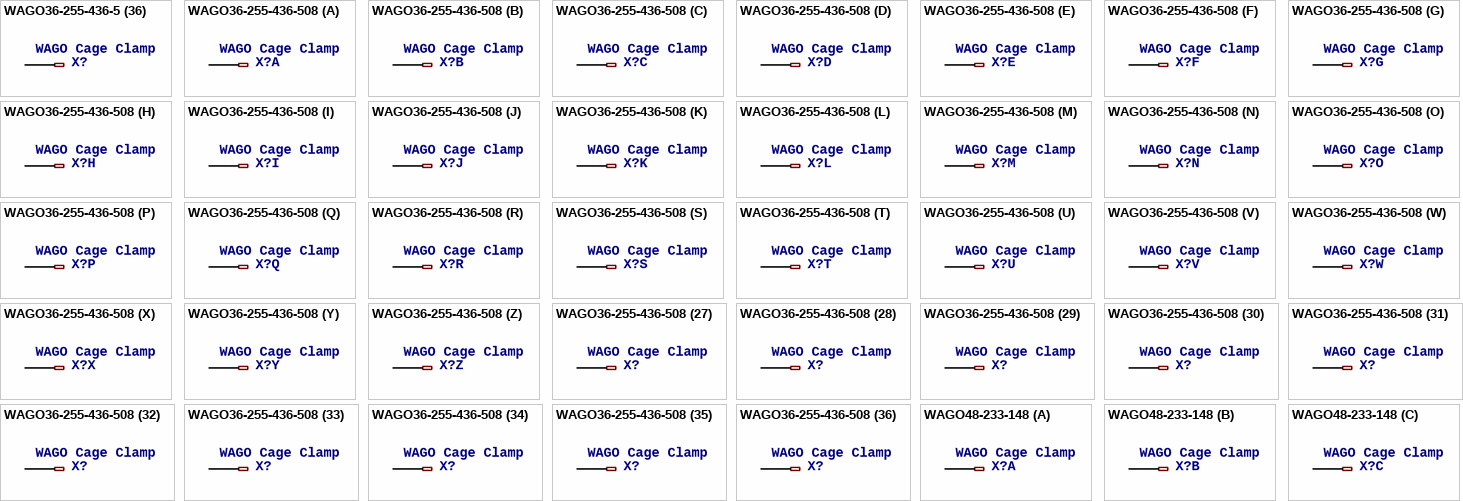
[diagram p27: symbols WAGO36-255-436-5 to WAGO48-233-148]

## WAGO36-255-436-5
designator X?, comment WAGO Cage Clamp
MPN: 255-436; OC_FARNELL: unknown; OC_NEWARK: 28K9781
footprint 255-436-5
part A pins: A1, B1
part B pins: A2 A1, B2 B1
part C pins: A3 A1, B3 B1
part D pins: A4 A1, B4 B1
part E pins: A5 A1, B5 B1
part F pins: A6 A1, B6 B1
part G pins: A7 A1, B7 B1
part H pins: A8 A1, B8 B1
part I pins: A9 A1, B9 B1
part J pins: A10 A1, B10 B1
part K pins: A11 A1, B11 B1
part L pins: A12 A1, B12 B1
part M pins: A13 A1, B13 B1
part N pins: A14 A1, B14 B1
part O pins: A15 A1, B15 B1
part P pins: A16 A1, B16 B1
part Q pins: A17 A1, B17 B1
part R pins: A18 A1, B18 B1
part S pins: A19 A1, B19 B1
part T pins: A20 A1, B20 B1
part U pins: A21 A1, B21 B1
part V pins: A22 A1, B22 B1
part W pins: A23 A1, B23 B1
part X pins: A24 A1, B24 B1
part Y pins: A25 A1, B25 B1
part Z pins: A26 A1, B26 B1
part 27 pins: A27 A1, B27 B1
part 28 pins: A28 A1, B28 B1
part 29 pins: A29 A1, B29 B1
part 30 pins: A30 A1, B30 B1
part 31 pins: A31 A1, B31 B1
part 32 pins: A32 A1, B32 B1
part 33 pins: A33 A1, B33 B1
part 34 pins: A34 A1, B34 B1
part 35 pins: A35 A1, B35 B1
part 36 pins: A36 A1, B36 B1

## WAGO36-255-436-508
designator X?, comment WAGO Cage Clamp
OC_FARNELL: unknown; OC_NEWARK: unknown
footprint 255-436-508
part A pins: A1, B1
part B pins: A2 A1, B2 B1
part C pins: A3 A1, B3 B1
part D pins: A4 A1, B4 B1
part E pins: A5 A1, B5 B1
part F pins: A6 A1, B6 B1
part G pins: A7 A1, B7 B1
part H pins: A8 A1, B8 B1
part I pins: A9 A1, B9 B1
part J pins: A10 A1, B10 B1
part K pins: A11 A1, B11 B1
part L pins: A12 A1, B12 B1
part M pins: A13 A1, B13 B1
part N pins: A14 A1, B14 B1
part O pins: A15 A1, B15 B1
part P pins: A16 A1, B16 B1
part Q pins: A17 A1, B17 B1
part R pins: A18 A1, B18 B1
part S pins: A19 A1, B19 B1
part T pins: A20 A1, B20 B1
part U pins: A21 A1, B21 B1
part V pins: A22 A1, B22 B1
part W pins: A23 A1, B23 B1
part X pins: A24 A1, B24 B1
part Y pins: A25 A1, B25 B1
part Z pins: A26 A1, B26 B1
part 27 pins: A27 A1, B27 B1
part 28 pins: A28 A1, B28 B1
part 29 pins: A29 A1, B29 B1
part 30 pins: A30 A1, B30 B1
part 31 pins: A31 A1, B31 B1
part 32 pins: A32 A1, B32 B1
part 33 pins: A33 A1, B33 B1
part 34 pins: A34 A1, B34 B1
part 35 pins: A35 A1, B35 B1
part 36 pins: A36 A1, B36 B1

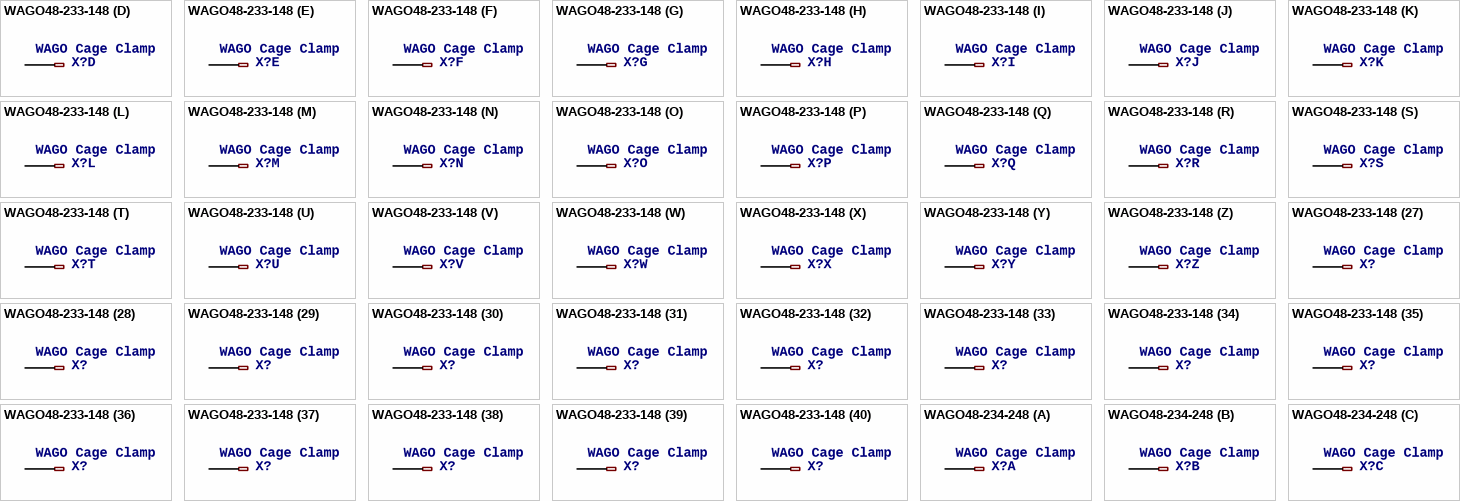
[diagram p28: symbols WAGO48-233-148 to WAGO48-234-248]

## WAGO48-233-148
designator X?, comment WAGO Cage Clamp
MPN: 233-148; OC_FARNELL: unknown; OC_NEWARK: 28K9058
footprint 233-148
part A pins: A1, B1
part B pins: A2 A1, B2 B1
part C pins: A3 A1, B3 B1
part D pins: A4 A1, B4 B1
part E pins: A5 A1, B5 B1
part F pins: A6 A1, B6 B1
part G pins: A7 A1, B7 B1
part H pins: A8 A1, B8 B1
part I pins: A9 A1, B9 B1
part J pins: A10 A1, B10 B1
part K pins: A11 A1, B11 B1
part L pins: A12 A1, B12 B1
part M pins: A13 A1, B13 B1
part N pins: A14 A1, B14 B1
part O pins: A15 A1, B15 B1
part P pins: A16 A1, B16 B1
part Q pins: A17 A1, B17 B1
part R pins: A18 A1, B18 B1
part S pins: A19 A1, B19 B1
part T pins: A20 A1, B20 B1
part U pins: A21 A1, B21 B1
part V pins: A22 A1, B22 B1
part W pins: A23 A1, B23 B1
part X pins: A24 A1, B24 B1
part Y pins: A25 A1, B25 B1
part Z pins: A26 A1, B26 B1
part 27 pins: A27 A1, B27 B1
part 28 pins: A28 A1, B28 B1
part 29 pins: A29 A1, B29 B1
part 30 pins: A30 A1, B30 B1
part 31 pins: A31 A1, B31 B1
part 32 pins: A32 A1, B32 B1
part 33 pins: A33 A1, B33 B1
part 34 pins: A34 A1, B34 B1
part 35 pins: A35 A1, B35 B1
part 36 pins: A36 A1, B36 B1
part 37 pins: A37 A1, B37 B1
part 38 pins: A38 A1, B38 B1
part 39 pins: A39 A1, B39 B1
part 40 pins: A40 A1, B40 B1
part 41 pins: A41 A1, B41 B1
part 42 pins: A42 A1, B42 B1
part 43 pins: A43 A1, B43 B1
part 44 pins: A44 A1, B44 B1
part 45 pins: A45 A1, B45 B1
part 46 pins: A46 A1, B46 B1
part 47 pins: A47 A1, B47 B1
part 48 pins: A48 A1, B48 B1

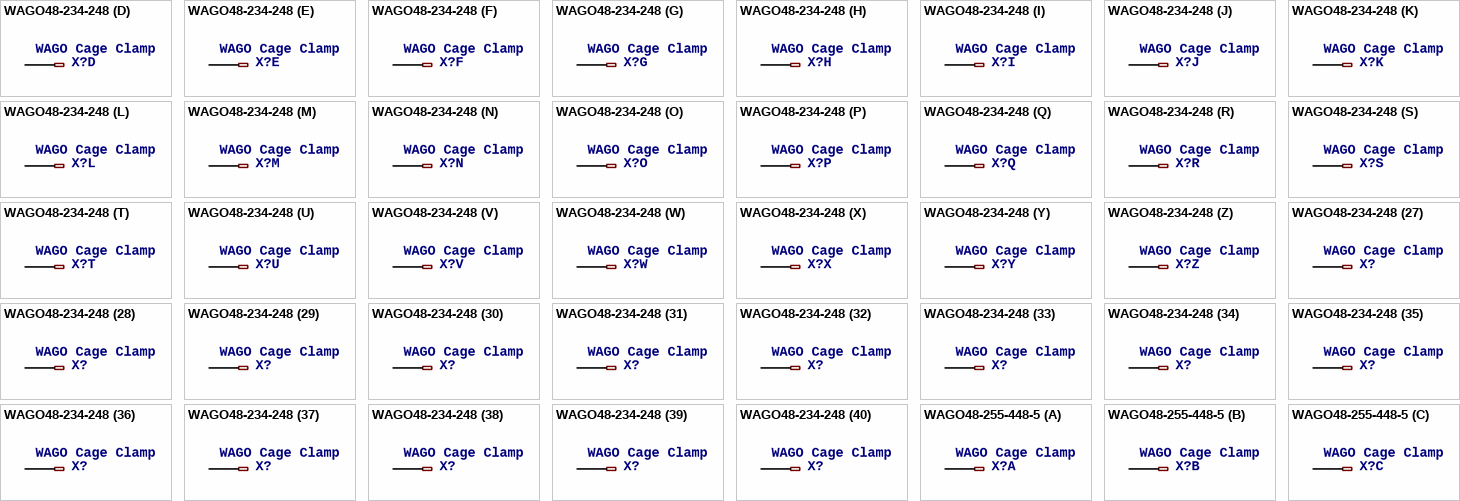
[diagram p29: symbols WAGO48-234-248 to WAGO48-255-448-5]

## WAGO48-234-248
designator X?, comment WAGO Cage Clamp
MPN: 234-248; OC_FARNELL: unknown; OC_NEWARK: 28K9104
footprint 234-248
part A pins: A1, B1
part B pins: A2 A1, B2 B1
part C pins: A3 A1, B3 B1
part D pins: A4 A1, B4 B1
part E pins: A5 A1, B5 B1
part F pins: A6 A1, B6 B1
part G pins: A7 A1, B7 B1
part H pins: A8 A1, B8 B1
part I pins: A9 A1, B9 B1
part J pins: A10 A1, B10 B1
part K pins: A11 A1, B11 B1
part L pins: A12 A1, B12 B1
part M pins: A13 A1, B13 B1
part N pins: A14 A1, B14 B1
part O pins: A15 A1, B15 B1
part P pins: A16 A1, B16 B1
part Q pins: A17 A1, B17 B1
part R pins: A18 A1, B18 B1
part S pins: A19 A1, B19 B1
part T pins: A20 A1, B20 B1
part U pins: A21 A1, B21 B1
part V pins: A22 A1, B22 B1
part W pins: A23 A1, B23 B1
part X pins: A24 A1, B24 B1
part Y pins: A25 A1, B25 B1
part Z pins: A26 A1, B26 B1
part 27 pins: A27 A1, B27 B1
part 28 pins: A28 A1, B28 B1
part 29 pins: A29 A1, B29 B1
part 30 pins: A30 A1, B30 B1
part 31 pins: A31 A1, B31 B1
part 32 pins: A32 A1, B32 B1
part 33 pins: A33 A1, B33 B1
part 34 pins: A34 A1, B34 B1
part 35 pins: A35 A1, B35 B1
part 36 pins: A36 A1, B36 B1
part 37 pins: A37 A1, B37 B1
part 38 pins: A38 A1, B38 B1
part 39 pins: A39 A1, B39 B1
part 40 pins: A40 A1, B40 B1
part 41 pins: A41 A1, B41 B1
part 42 pins: A42 A1, B42 B1
part 43 pins: A43 A1, B43 B1
part 44 pins: A44 A1, B44 B1
part 45 pins: A45 A1, B45 B1
part 46 pins: A46 A1, B46 B1
part 47 pins: A47 A1, B47 B1
part 48 pins: A48 A1, B48 B1

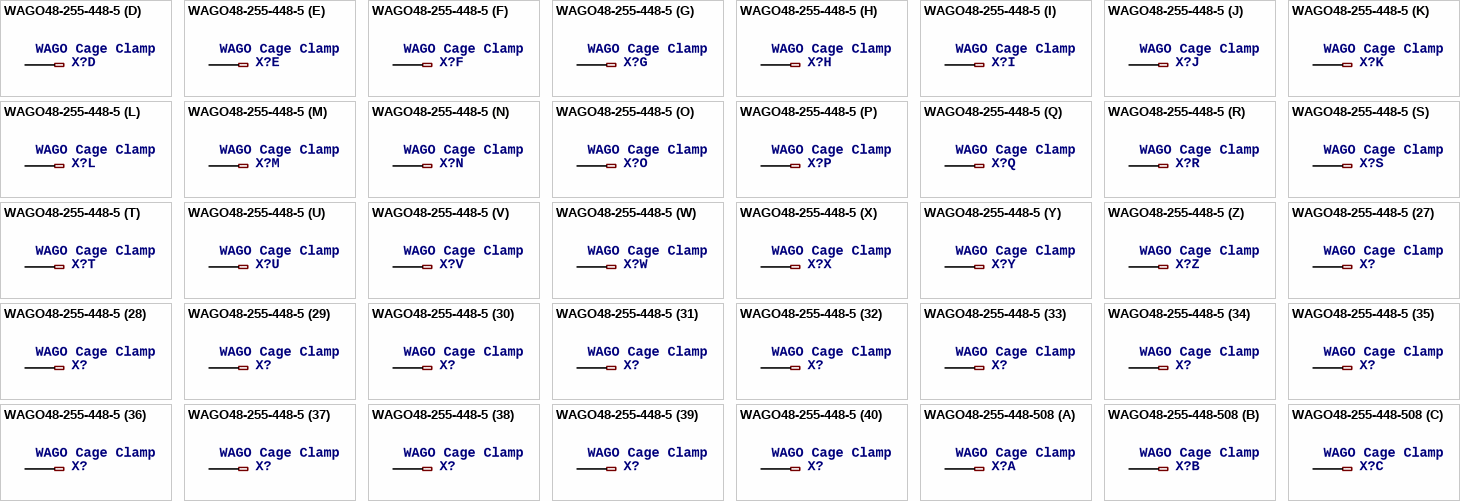
[diagram p30: symbols WAGO48-255-448-5 to WAGO48-255-448-508]

## WAGO48-255-448-5
designator X?, comment WAGO Cage Clamp
MPN: 255-448; OC_FARNELL: unknown; OC_NEWARK: 28K9782
footprint 255-448-5
part A pins: A1, B1
part B pins: A2 A1, B2 B1
part C pins: A3 A1, B3 B1
part D pins: A4 A1, B4 B1
part E pins: A5 A1, B5 B1
part F pins: A6 A1, B6 B1
part G pins: A7 A1, B7 B1
part H pins: A8 A1, B8 B1
part I pins: A9 A1, B9 B1
part J pins: A10 A1, B10 B1
part K pins: A11 A1, B11 B1
part L pins: A12 A1, B12 B1
part M pins: A13 A1, B13 B1
part N pins: A14 A1, B14 B1
part O pins: A15 A1, B15 B1
part P pins: A16 A1, B16 B1
part Q pins: A17 A1, B17 B1
part R pins: A18 A1, B18 B1
part S pins: A19 A1, B19 B1
part T pins: A20 A1, B20 B1
part U pins: A21 A1, B21 B1
part V pins: A22 A1, B22 B1
part W pins: A23 A1, B23 B1
part X pins: A24 A1, B24 B1
part Y pins: A25 A1, B25 B1
part Z pins: A26 A1, B26 B1
part 27 pins: A27 A1, B27 B1
part 28 pins: A28 A1, B28 B1
part 29 pins: A29 A1, B29 B1
part 30 pins: A30 A1, B30 B1
part 31 pins: A31 A1, B31 B1
part 32 pins: A32 A1, B32 B1
part 33 pins: A33 A1, B33 B1
part 34 pins: A34 A1, B34 B1
part 35 pins: A35 A1, B35 B1
part 36 pins: A36 A1, B36 B1
part 37 pins: A37 A1, B37 B1
part 38 pins: A38 A1, B38 B1
part 39 pins: A39 A1, B39 B1
part 40 pins: A40 A1, B40 B1
part 41 pins: A41 A1, B41 B1
part 42 pins: A42 A1, B42 B1
part 43 pins: A43 A1, B43 B1
part 44 pins: A44 A1, B44 B1
part 45 pins: A45 A1, B45 B1
part 46 pins: A46 A1, B46 B1
part 47 pins: A47 A1, B47 B1
part 48 pins: A48 A1, B48 B1

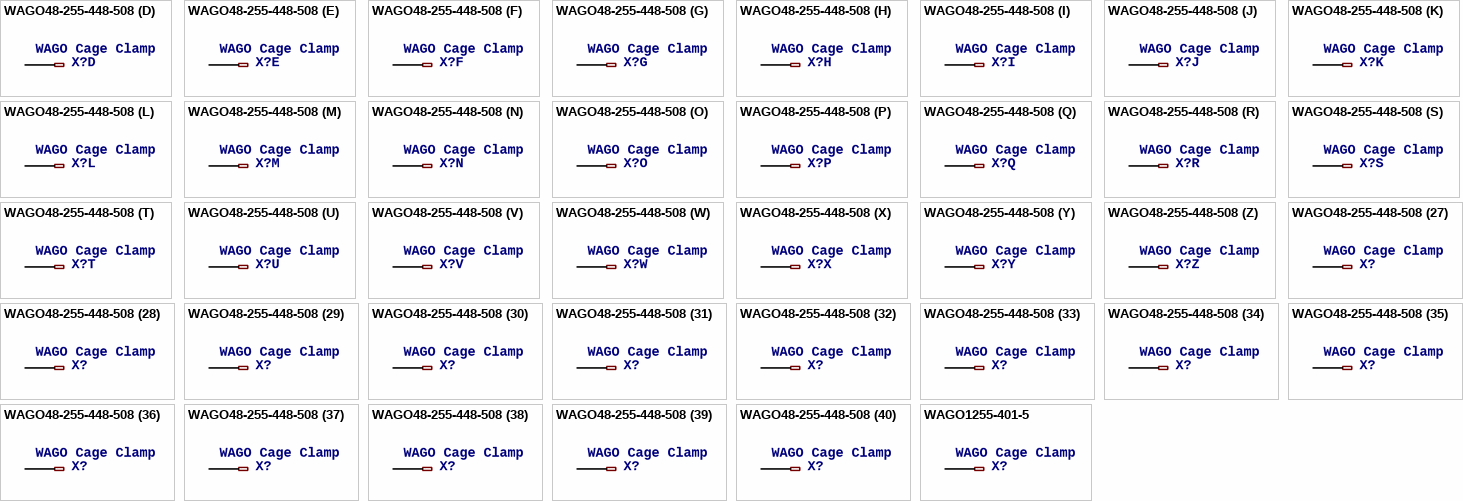
[diagram p31: symbols WAGO48-255-448-508 to WAGO1255-401-5]

## WAGO48-255-448-508
designator X?, comment WAGO Cage Clamp
OC_FARNELL: unknown; OC_NEWARK: unknown
footprint 255-448-508
part A pins: A1, B1
part B pins: A2 A1, B2 B1
part C pins: A3 A1, B3 B1
part D pins: A4 A1, B4 B1
part E pins: A5 A1, B5 B1
part F pins: A6 A1, B6 B1
part G pins: A7 A1, B7 B1
part H pins: A8 A1, B8 B1
part I pins: A9 A1, B9 B1
part J pins: A10 A1, B10 B1
part K pins: A11 A1, B11 B1
part L pins: A12 A1, B12 B1
part M pins: A13 A1, B13 B1
part N pins: A14 A1, B14 B1
part O pins: A15 A1, B15 B1
part P pins: A16 A1, B16 B1
part Q pins: A17 A1, B17 B1
part R pins: A18 A1, B18 B1
part S pins: A19 A1, B19 B1
part T pins: A20 A1, B20 B1
part U pins: A21 A1, B21 B1
part V pins: A22 A1, B22 B1
part W pins: A23 A1, B23 B1
part X pins: A24 A1, B24 B1
part Y pins: A25 A1, B25 B1
part Z pins: A26 A1, B26 B1
part 27 pins: A27 A1, B27 B1
part 28 pins: A28 A1, B28 B1
part 29 pins: A29 A1, B29 B1
part 30 pins: A30 A1, B30 B1
part 31 pins: A31 A1, B31 B1
part 32 pins: A32 A1, B32 B1
part 33 pins: A33 A1, B33 B1
part 34 pins: A34 A1, B34 B1
part 35 pins: A35 A1, B35 B1
part 36 pins: A36 A1, B36 B1
part 37 pins: A37 A1, B37 B1
part 38 pins: A38 A1, B38 B1
part 39 pins: A39 A1, B39 B1
part 40 pins: A40 A1, B40 B1
part 41 pins: A41 A1, B41 B1
part 42 pins: A42 A1, B42 B1
part 43 pins: A43 A1, B43 B1
part 44 pins: A44 A1, B44 B1
part 45 pins: A45 A1, B45 B1
part 46 pins: A46 A1, B46 B1
part 47 pins: A47 A1, B47 B1
part 48 pins: A48 A1, B48 B1

## WAGO1255-401-5
designator X?, comment WAGO Cage Clamp
MPN: 255-401; OC_FARNELL: 4015319; OC_NEWARK: 28K9763
footprint 255-401-5
pins: A1, B1